# Altium schematic symbol library RFM23BP.SchLib: 1 symbol
Pins are listed as number, name and electrical type; pins without a type are passive.

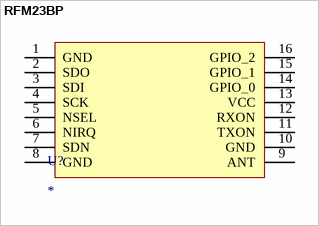
[diagram p0: symbol RFM23BP]

## RFM23BP
designator U?
pins: 1 GND, 2 SDO, 3 SDI, 4 SCK, 5 NSEL, 6 NIRQ, 7 SDN, 8 GND, 9 ANT, 10 GND, 11 TXON, 12 RXON, 13 VCC, 14 GPIO_0, 15 GPIO_1, 16 GPIO_2